# Altium footprint library MRS25000C4751FRP00.PcbLib: 1 footprints
Each footprint in its own frame and in the unit in brackets; x right, y up, seen from the top. Pads: shape width x height; smd on the part's side, far side on the other; paste and mask are expansions set on the pad; w line width, h text height; cw(c..) or ccw(c..) is an arc to the next point about the centre after c.
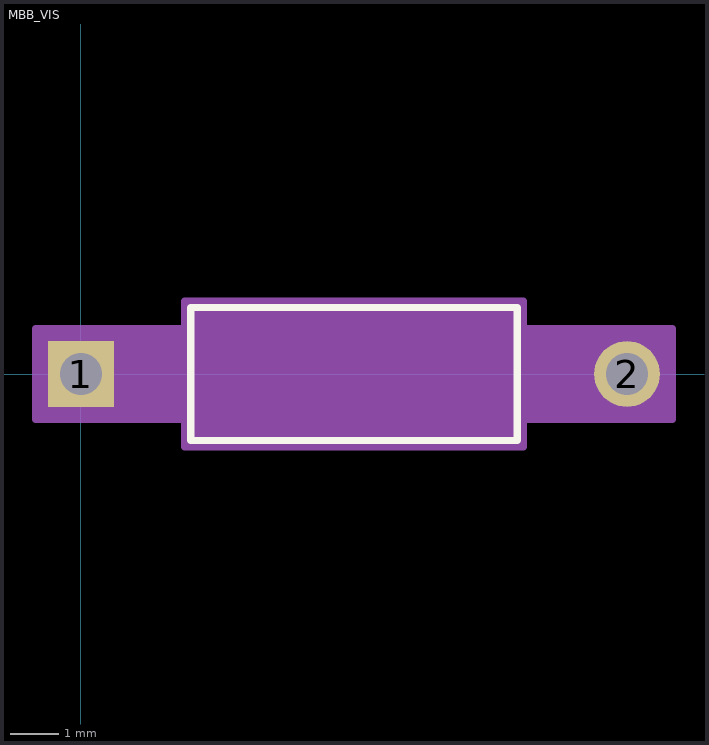
[diagram p0: the footprint, top view; thin cyan lines are the x and y axes]

## MBB_VIS [mil]
pads (2):
  rect 53.62x53.62 / inner round 60 / far side rect 53.62x53.62 hole 34 paste-26.81 mask+0: 1(0,0)
  round 53.62 / inner round 60 / far side round 53.62 hole 34 paste-26.81 mask+0: 2(444.88,0)
Top Overlay:
  lines w6: 89.49,-54.21 355.39,-54.21 355.39,54.21 89.49,54.21 89.49,-54.21
Mechanical 13:
  lines w1: 0,0 94.49,0 ; 350.39,0 444.88,0 ; 94.49,-49.21 350.39,-49.21 350.39,49.21 94.49,49.21 94.49,-49.21
Mechanical 15:
  region: 84.49,-36.81 -36.81,-36.81 -36.81,36.81 84.49,36.81 84.49,59.21 360.39,59.21 360.39,36.81 481.69,36.81 481.69,-36.81 360.39,-36.81 360.39,-59.21 84.49,-59.21
  lines w6: -36.81,-36.81 -36.81,36.81 84.49,36.81 84.49,59.21 360.39,59.21 360.39,36.81 481.69,36.81 481.69,-36.81 360.39,-36.81 360.39,-59.21 84.49,-59.21 84.49,-36.81 -36.81,-36.81
3D body "MBB_VIS.step": height 98.43, standoff -110, extent -11.81,-48.85 456.69,48.85